# Altium schematic symbol library 1735265-8.SchLib: 1 symbol
Pins are listed as number, name and electrical type; pins without a type are passive.

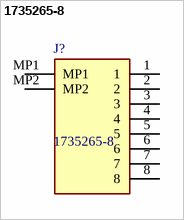
[diagram p0: symbol 1735265-8]

## 1735265-8
designator J?
Body Features: Primary Product Color Natural | Configuration Features: Compatible With Wire & Cable Type FFC | Number of Positions 8 | Number of Rows 1 | PCB Mount Orientation Right Angle | Compatible With Wire & Cable Type FPC | Contact Features: Contact Mating Location Bottom | Contact Mating Area Plating Material Thickness 2 MICIN | Contact Shape & Form Standard Flat | Contact Mating Area Plating Material Gold | Contact Type Socket | Contact Base Material Phosphor Bronze | PCB Contact Termination Area Pl; Manufacturer_Name: TE Connectivity; Geometry.Height: 2.74mm; Mouser Part Number: 571-1735265-8; Mouser Price/Stock: https://www.mouser.co.uk/ProductDetail/TE-Connectivity-AMP/1735265-8?qs=vkMqrgFpRajjm%252BbPDw7SSA%3D%3D; Manufacturer_Part_Number: 1735265-8; Datasheet Link: https://www.te.com/commerce/DocumentDelivery/DDEController?Action=srchrtrv&DocNm=1-1773959-7-FPC-Connectors-CN&DocType=Data%20Sheet&DocLang=Chinese (Simplified)&PartCntxt=1735265-8&DocFormat=pdf
footprint 17352658
pins: 1, 2, 3, 4, 5, 6, 7, 8, MP1, MP2